# Altium footprint library PH.PcbLib: 65 footprints (part 5 of 5)
Each footprint in its own frame and in the unit in brackets; x right, y up, seen from the top. Pads: shape width x height; smd on the part's side, far side on the other; paste and mask are expansions set on the pad; w line width, h text height; cw(c..) or ccw(c..) is an arc to the next point about the centre after c.
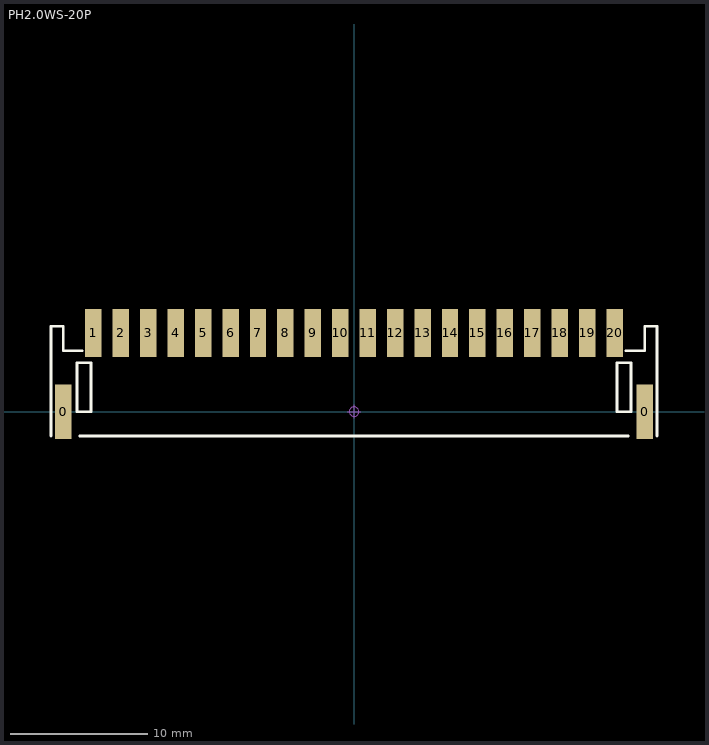
[diagram p4: the footprint, top view; thin cyan lines are the x and y axes]

## PH2.0WS-20P [mm]
pads (22):
  rect 1.2x4 smd: 0(-21.2,-0.006) 0(21.2,-0.006)
  rect 1.2x3.5 smd: 1(-19,5.744) 2(-17,5.744) 3(-15,5.744) 4(-13,5.744) 5(-11,5.744) 6(-9,5.744) 7(-7,5.744) 8(-5,5.744) 9(-3,5.744) 10(-1,5.744) 11(1,5.744) 12(3,5.744) 13(5,5.744) 14(7,5.744) 15(9,5.744) 16(11,5.744) 17(13,5.744) 18(15,5.744) 19(17,5.744) 20(19,5.744)
Top Overlay:
  lines w0.2: -22.096,-1.778 -22.096,6.223 -21.207,6.223 -21.207,4.445 -19.81,4.445 ; -20,-1.778 20,-1.778 ; 19.81,4.445 21.207,4.445 21.207,6.223 22.096,6.223 22.096,-1.778 ; -20.191,0 -19.175,0 -19.175,3.556 -20.191,3.556 -20.191,0 ; 19.175,0 20.191,0 20.191,3.556 19.175,3.556 19.175,0
Mechanical 15:
  circle w0.05: c0,0 r0.35
  lines w0.05: -0.5,0 0.5,0 ; 0,-0.5 0,0.5
3D body "PH2.0 SMD-W-20P.STEP": height 5.55, standoff 0.05, extent -22,-1.65 22,6.95